# Altium footprint library LPS33KTR.PcbLib: 1 footprints
Each footprint in its own frame and in the unit in brackets; x right, y up, seen from the top. Pads: shape width x height; smd on the part's side, far side on the other; paste and mask are expansions set on the pad; w line width, h text height; cw(c..) or ccw(c..) is an arc to the next point about the centre after c.
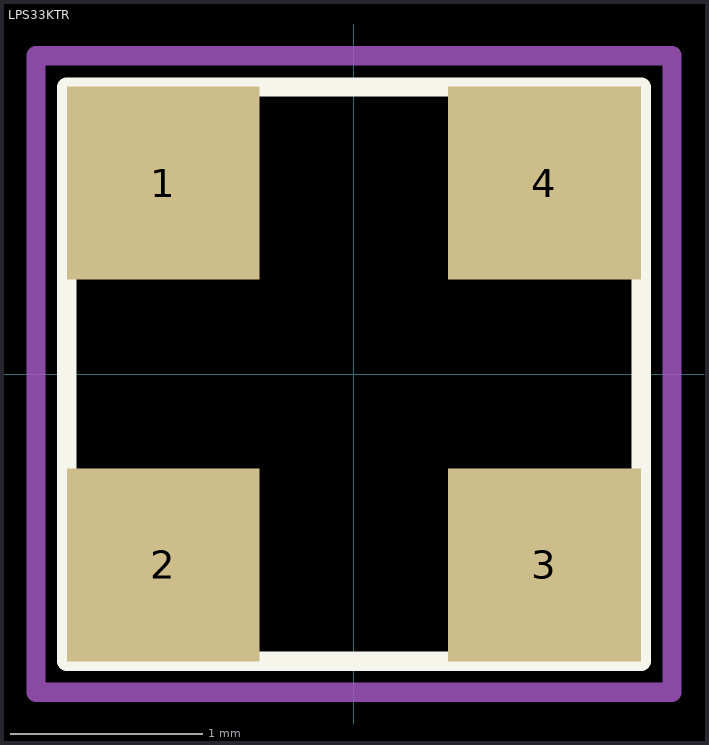
[diagram p0: the footprint, top view; thin cyan lines are the x and y axes]

## LPS33KTR [mm]
pads (4):
  rect 1x1 smd mask+0.05: 1(-0.989,0.991) 2(-0.989,-0.991) 3(0.989,-0.991) 4(0.989,0.991)
Top Overlay:
  lines w0.1: -1.489,-1.491 1.491,-1.491 1.491,1.489 -1.489,1.489 -1.489,-1.491
Mechanical 1:
  lines w0.1: -1.649,1.649 -1.649,-1.651 1.651,-1.651 ; -1.649,1.651 1.651,1.651 1.651,-1.649